# Altium schematic symbol library 2_keys.SchLib: 7 symbols
Pins are listed as number, name and electrical type; pins without a type are passive.

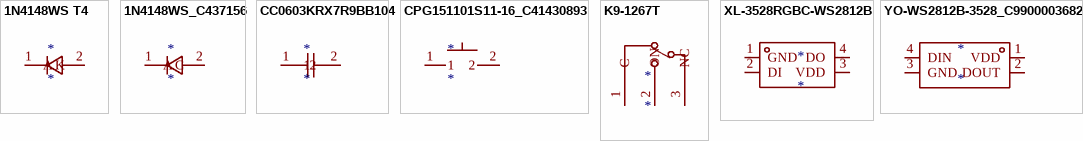
[diagram p0: symbols 1N4148WS T4 to YO-WS2812B-3528_C9900003682]

## 1N4148WS T4
designator *
pins: 1 K, 2 A

## 1N4148WS_C437156
designator *
pins: 1 C, 2 A

## CC0603KRX7R9BB104
designator *
pins: 1, 2

## CPG151101S11-16_C41430893
designator *
pins: 1, 2

## K9-1267T
designator *
pins: 1 C, 2 ON, 3 NC

## XL-3528RGBC-WS2812B
designator *
pins: 1 GND, 2 DI, 3 VDD, 4 DO

## YO-WS2812B-3528_C9900003682
designator *
pins: 1 VDD, 2 DOUT, 3 GND, 4 DIN